# Altium schematic symbol library Schakeling_1.SCHLIB: 28 symbols
Pins are listed as number, name and electrical type; pins without a type are passive.

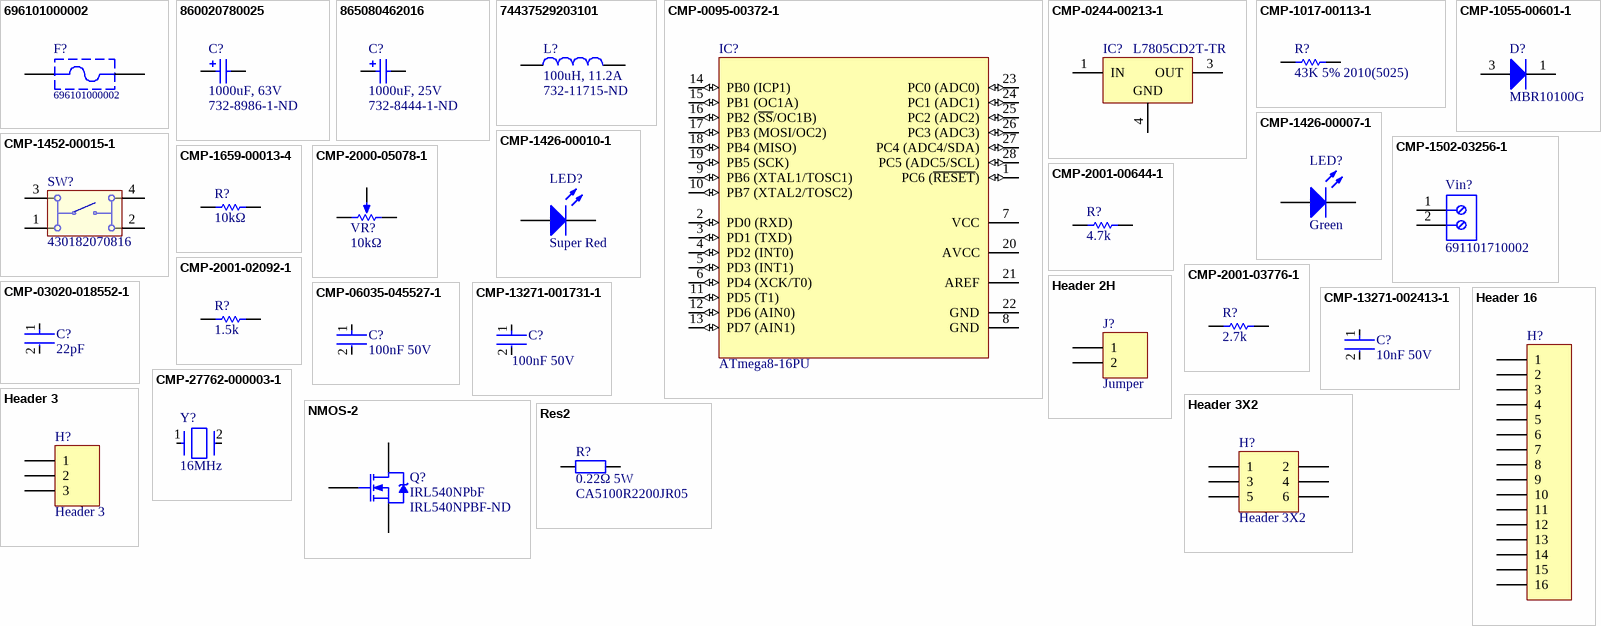
[diagram p0: symbols 696101000002 to Res2]

## 696101000002
designator F?
WR-FSH Fuse Holder Blocks Fuse Holder Blocks Clip Cover for PCB; Fuse Size: 5x20 mm; ComponentLink1Description: Manufacturer; ComponentLink1URL: http://www.we-online.de; ComponentLink2Description: Datasheet; ComponentLink2URL: https://katalog.we-online.de/em/datasheet/696101000002.pdf; Part Number: 696101000002; Published Date: August 2018; Publisher: Wurth Elektronik; Operating Temperature: -30 to 120 degC; Mounting Technology: THT; Packaging: Box
footprint 696101000002
pins: 1, 2

## 860020780025
designator C?, comment 1000uF, 63V  Supplier Part Number 1: 732-8986-1-ND
CAP ALUM 1000UF 20% 63V RADIAL; Manufacturer Part Number: 860020780025; Manufacturer: Wurth Elektronik; Endurance: 2000h; Ripple Current: 1185mA; Technical Reference: ATDK315102M063DSPADB000; Dissipation Factor: 9%; Capacitance Tolerance: +/-20%; Leakage Current: 630uA; Rated Voltage: 63VDC; Polarity: Polar; Life (Hours): 2000Hour; Height: 31.5mm; ComponentLink1URL: http://www.we-online.de; ComponentLink2URL: https://www.we-online.com/catalog/datasheet/860020780025.pdf; ComponentLink2Description: Datasheet; Diameter: 16mm; Mounting Technology: THT; Capacitance: 1000uF; Packaging: Ammo Pack; Published Date: October 2020; ComponentLink1Description: Manufacturer; Operating Temperature: -40 to +105degC; Supplier 1: Digi-Key; RoHS: Yes; Category: Aluminum Electrolytic Capacitors; Stock 1: 70; Pricing 1: 1=2,37000, 50=2,01700, 100=1,75700 (USD); Mount: Through Hole; Case/Package: Radial; Min Operating Temperature: -40°C; Max Operating Temperature: 105°C; Package Quantity: 250; Voltage Rating: 63V; Tolerance: 20%; Voltage Rating (DC): 63V; Lead Pitch: 0.295inch; Height - Seated (Max): 1.299inch; REACH SVHC: Unknown; RoHS Compliant: Yes; ComponentLink3URL: http://www.farnell.com/datasheets/1879699.pdf?src-supplier=Farnell; ComponentLink3Description: http://www.farnell.com/datasheets/1879699.pdf?src-supplier=Farnell; ComponentLink4URL: https://katalog.we-online.de/pbs/datasheet/860020780025.pdf?src-supplier=Digi-Key; ComponentLink4Description: https://katalog.we-online.de/pbs/datasheet/860020780025.pdf?src-supplier=Digi-Key; ComponentLink5URL: http://www.farnell.com/datasheets/1879699.pdf?src-supplier=Element14; ComponentLink5Description: http://www.farnell.com/datasheets/1879699.pdf?src-supplier=Element14; ComponentLink6URL: http://katalog.we-online.de/pbs/datasheet/860020780025.pdf?src-supplier=Digi-Key; ComponentLink6Description: http://katalog.we-online.de/pbs/datasheet/860020780025.pdf?src-supplier=Digi-Key
footprint WCAP-ATG5_D16H31.5
pins: 1 P, 2 N

## 865080462016
designator C?, comment 1000uF, 25V  Supplier Part Number 1: 732-8444-1-ND
WCAP-ASLI Aluminum Electrolytic Capacitor, V-Chip, SMT, D12.5xH14mm, 1000uF, 25V; Manufacturer Part Number: 865080462016; Manufacturer: Wurth Elektronik; Technical Reference: ASEH140102M025DVCTGB000; Ripple Current: 1100mA; Capacitance Tolerance: +/-20%; Leakage Current: 250uA; Endurance: 2000h; Dissipation Factor: 14%; Rated Voltage: 25VDC; Packaging: Tape and Reel; Published Date: October 2020; Operating Temperature: -55 to +105degC; Mounting Technology: SMT; Height: 14mm; Capacitance: 1000uF; ComponentLink1Description: Manufacturer; ComponentLink1URL: http://www.we-online.de; ComponentLink2Description: Datasheet; ComponentLink2URL: https://www.we-online.com/catalog/datasheet/865080462016.pdf; Diameter: 12.5mm; Supplier 1: Digi-Key
footprint WCAP-ASLI_D12.5H14
pins: 1 P, 2 N

## 74437529203101
designator L?, comment 100uH, 11.2A  Supplier Part Number 1: 732-11715-ND
WE-HCF SMT High Current Inductor, size 2920, 100uH, 11.2A, 25.19mOhm; Manufacturer: Wurth Elektronik; Manufacturer Part Number: 74437529203101; Self Resonant Frequency: 4.3MHz; DC Resistance typ.: 22.9mOhm; Saturation Current: 9.4A; ComponentLink1Description: Manufacturer; ComponentLink1URL: http://www.we-online.de; ComponentLink2Description: Datasheet; ComponentLink2URL: https://www.we-online.com/catalog/datasheet/74437529203101.pdf; Mounting Technology: SMT; Operating Temperature: -40 to +125degC; Packaging: Tray and Carton; Published Date: September 2020; DC Resistance max.: 25.19mOhm; Inductance: 100uH; Rated Current: 11.2A; Size: 2920; Supplier 1: Digi-Key
footprint WE-HCF_2920
pins: 1, 2

## CMP-0095-00372-1
designator IC?, comment ATmega8-16PU
8-bit AVR Microcontroller, 4.5-5.5V, 16MHz, 8KB Flash, 512 Bytes EEPROM, 1KB SRAM, 28-pin PDIP, Industrial Grade (-40°C to 85°C); Manufacturer: Microchip / Atmel; ComponentLink3URL: http://www.atmel.com/dyn/resources/prod_documents/2486S.pdf; ComponentLink3Description: ATmega8(L) Summary; PackageDescription: 28-lead (0.300"/7.62mm Wide) Plastic Dual Inline Package (PDIP); ComponentLink2Description: ATmega8(L); ComponentLink1URL: http://www.atmel.com/; PackageVersion: revB, Sep-2001; ComponentLink1Description: Manufacturer URL; ComponentLink2URL: http://www.atmel.com/dyn/resources/prod_documents/doc2486.pdf; PackageReference: 28P3; DatasheetVersion: revZ, Feb-2011; Manufacturer Part Number: ATMEGA8-16PU
footprint 28P3 (DIP, 28-Leads, Row Spacing 7.62mm, Pitch 2.54mm, Body 34.67x7.3mm)
pins: 1 PC6 (~{RESET}) (io), 2 PD0 (RXD) (io), 3 PD1 (TXD) (io), 4 PD2 (INT0) (io), 5 PD3 (INT1) (io), 6 PD4 (XCK/T0) (io), 7 VCC (power), 8 GND (power), 9 PB6 (XTAL1/TOSC1) (io), 10 PB7 (XTAL2/TOSC2) (io), 11 PD5 (T1) (io), 12 PD6 (AIN0) (io), 13 PD7 (AIN1) (io), 14 PB0 (ICP1) (io), 15 PB1 (OC1A) (io), 16 PB2 (~{SS}/OC1B) (io), 17 PB3 (MOSI/OC2) (io), 18 PB4 (MISO) (io), 19 PB5 (SCK) (io), 20 AVCC (power), 21 AREF, 22 GND (power), 23 PC0 (ADC0) (io), 24 PC1 (ADC1) (io), 25 PC2 (ADC2) (io), 26 PC3 (ADC3) (io), 27 PC4 (ADC4/SDA) (io), 28 PC5 (ADC5/SCL) (io)

## CMP-0244-00213-1
designator IC?, comment L7805CD2T-TR
Positive Voltage Regulator, 3-Pin D2PAK, Tape and Reel; Manufacturer: STMicroelectronics; PackageReference: TO-263; ComponentLink2URL: http://www.st.com/internet/com/TECHNICAL_RESOURCES/TECHNICAL_LITERATURE/DATASHEET/CD00000444.pdf; PackageDescription: 3-Pin Transistor Outline Package 2.54 mm Pitch, 15.4 mm Lead Span (D2PAK); DatasheetVersion: 16/11/2011; ComponentLink2Description: Datasheet; ComponentLink1Description: Manufacturer URL; PackageVersion: 2011; ComponentLink1URL: http://www.st.com; Manufacturer Part Number: L7805CD2T-TR
footprint TO-263_M (D2-PAK, 4-Leads, Body 9.2x10.2mm, Pitch 2.54mm, Lead Span 15.4mm, IPC Low Density)
footprint TO-263_N (D2-PAK, 4-Leads, Body 9.2x10.2mm, Pitch 2.54mm, Lead Span 15.4mm, IPC Medium Density)
footprint TO-263_L (D2-PAK, 4-Leads, Body 9.2x10.2mm, Pitch 2.54mm, Lead Span 15.4mm, IPC High Density)
pins: 1 IN (power), 3 OUT (power), 4 GND (power)

## CMP-1017-00113-1
designator R?, comment 43K 5% 2010(5025)
43K 0.75W 5% 2010 (5025 Metric)  SMD; Manufacturer: Vishay Dale; Manufacturer Part Number: CRCW201043K0JNTF; Manufacturer Part Number: CRCW201043K0JNEF; Manufacturer: Panasonic; Manufacturer Part Number: ERJ-12ZYJ433U; Case-EIA: 2010; Value: 43000.00 Ohm; Case-Metric: 5025; Tolerance: 5 %; Technology: SMT; Power: 0.75 W
footprint RESC2010(5025)_M (Chip Resistor, Body 5.0x2.5mm, IPC Low Density)
footprint RESC2010(5025)_L (Chip Resistor, Body 5.0x2.5mm, IPC High Density)
footprint RESC2010(5025)_N (Chip Resistor, Body 5.0x2.5mm, IPC Medium Density)
pins: 1, 2
1 alternate drawing of the same symbol

## CMP-1055-00601-1
designator D?, comment MBR10100G
SWITCHMODE(TM) Power Rectifier, 2-Pin TO-220, Pb-Free, Tube; Manufacturer: On Semiconductor; Configuration: Single; IFSM Max (A): 150; Mounting Technology: Through Hole; ComponentLink1URL: http://www.onsemi.com/; PartNumber: MBR10100G; ComponentLink1Description: Manufacturer URL; ComponentLink3URL: http://www.onsemi.com/pub_link/Collateral/BYW29-D.PDF; PackageDescription: 2-Pin Flange Mount, Vertical Straight Lead, Body 9.97 x 4.44 mm, Pitch 5.08 mm; DatasheetVersion: Rev. 1; PackageVersion: Rev. E; ComponentLink2Description: Datasheet; ComponentLink2URL: http://www.onsemi.cn/pub_link/Collateral/MBR1080-D.PDF; Packing: Tube; RoHS: TRUE; PackageReference: TO-220-2-221B-04_E; ComponentLink3Description: Package Specification; Manufacturer: ON Semiconductor; Manufacturer Part Number: MBR10100G
footprint ONSC-TO-220-2-221B-04_E (FM, 2-Leads, Body 10.3x4.85mm, Pitch 5.08mm)
pins: 1 K, 3 A

## CMP-1426-00007-1
designator LED?, comment Green
SMD mono-color Chip LED, WL-SMCW, Green; PartNumber: 150080GS75000; Manufacturer: Wuerth Elektronik; Manufacturer: Wurth Electronics; PackageReference: 0805_A; Color: Green; ComponentLink2URL: http://katalog.we-online.com/led/datasheet/150080GS75000.pdf; ComponentLink1URL: http://www.we-online.com; ComponentLink1Description: Manufacturer URL; ComponentLink2Description: Datasheet; Manufacturer Part Number: 150080GS75000
footprint 0805_A (Chip LED, 2-Leads, Body 2.0x1.3mm, IPC Medium Density)
pins: 1 K, 2 A

## CMP-1426-00010-1
designator LED?, comment Super Red
SMD mono-color Chip LED, WL-SMCW, Super Red; Manufacturer: Wuerth Elektronik; PartNumber: 150080SS75000; Manufacturer: Wurth Electronics; PackageReference: 0805_A; ComponentLink2URL: http://katalog.we-online.com/led/datasheet/150080SS75000.pdf; ComponentLink1URL: http://www.we-online.com; Color: Super Red; ComponentLink2Description: Datasheet; ComponentLink1Description: Manufacturer URL; Manufacturer Part Number: 150080SS75000
footprint 0805_A (Chip LED, 2-Leads, Body 2.0x1.3mm, IPC Medium Density)
pins: 1 K, 2 A

## CMP-1452-00015-1
designator SW?, comment 430182070816
WS-TASV SMD Tact Switch 6X6 mm; Manufacturer: Wuerth Elektronik; Manufacturer: Wurth Electronics; NoPins: 04; ComponentLink2URL: http://katalog.we-online.de/em/datasheet/4301x2.pdf; ComponentLink1URL: http://www.we-online.com; PartNumber: 430182070816; PackageReference: 430182070816; ComponentLink2Description: Datasheet; ComponentLink1Description: Manufacturer URL; Manufacturer Part Number: 430182070816
footprint 430182070816 (6*6mm vertical type, SMD, height 7.0mm, black actuator, 160gf, T&R)
pins: 1, 2, 3, 4

## CMP-1502-03256-1
designator Vin?, comment 691101710002
Series 101 - 5.00 mm Horizontal Entry Modular with Pressure Clamp WR-TBL, 2 pin; Manufacturer: Wurth Elektronik; Manufacturer: Wurth Electronics; Pin Number: 2; Pitch: 5.00mm; Package Reference: 691101710002; Part Number: 691101710002; Publisher: WurthElektronik; Datasheet URL: http://katalog.we-online.de/em/datasheet/6911017100xx.pdf; Packaging: Box; Operating Temperature: -40to105degC; Manufacturer URL: http://www.we-online.de; Mounting Technology: THT; Manufacturer Part Number: 691101710002
footprint 691101710002 (5,00mm - modular - blue - Horizontal entry with pressure clamp - 12,6mm height - 02p)
pins: 1, 2

## CMP-1659-00013-4
designator R?, comment 10kΩ
Chip Resistor, 10 KOhm, +/- 1%, 0.125 W, -55 to 155 degC, 0805 (2012 Metric), RoHS, Tape and Reel; Manufacturer: Yageo; Manufacturer Part Number: RC0805FR-0710KL; Voltage Rating: 150 V; Mount: Surface Mount; ComponentLink1Description: Manufacturer URL; ComponentLink2URL: http://www.yageo.com/documents/recent/PYu-RC_Group_51_RoHS_L_04.pdf; Pins: 2; Length: 2 mm; Min Operating Temperature: -55 degC; Height: 0.5 mm; Mounting Technology: Surface Mount; RoHSCompliant: true; REACH SVHC: No SVHC; ComponentLink1URL: http://www.yageo.com/; Max Operating Temperature: 155 degC; PackageReference: 0805; DatasheetVersion: Rev. 4, 02/2016; Package Quantity: 5000; Packaging: Tape and Reel; ComponentLink2Description: Datasheet; PackageDescription: 2-Pin Surface Mounted Device, Body 2 x 1.25 mm
footprint RESC2013X60X35NL10T20 (Chip Resistor, 2-Leads, Body 2.1x1.35mm, IPC Medium Density)
footprint RESC2013X60X35LL10T20 (Chip Resistor, 2-Leads, Body 2.1x1.35mm, IPC High Density)
footprint RESC2013X60X35ML10T20 (Chip Resistor, 2-Leads, Body 2.1x1.35mm, IPC Low Density)
pins: 1, 2

## CMP-2000-05078-1
designator VR?, comment 10kΩ
Square Trimming Potentiometer, 10 KOhm, 500 mW, -55 to 125 degC, 3-Pin THD, RoHS, Tube; Manufacturer Part Number: 3299W-1-103LF; Brand: Bourns; Power Rating: 500mW(1/2W); Unit Weight: 0.035000oz; Qualification: Commercial; Element Type: Cermet; Resistance: 10kOhms; Tolerance: 10%; Temperature Coefficient: 100PPM/C; Voltage Rating: 300V; Adjustment: TopCrossed; Product: Multiturn; Datasheet Version: Sep-04; Datasheet URL: https://datasheet.ciiva.com/19482/769696-19482212.pdf; RoHS: True; Tradename: Trimpot; Product Type: SquareTrimmingPotentiometer; Mounting: PanelMount; Packaging: Tube; Package Reference: 3299W; Operating Temperature Range: -55Cto+125C; Length: 10.03mm; Termination Style: Pin; Manufacturer: Bourns; Manufacturer URL: http://www.bourns.com/; Product Category: TrimmerResistors-ThroughHole; Width: 9.53mm; Taper: Linear; Package Description: 3-Pin Surface Mount Device, Body 9.53 x 6.1 mm, Pitch 2.54 mm; Type: Trimmers; Series: 3299
footprint BOUR-3299W-3_V (TH, 3-Leads, Body 9.53x6.4mm, Pitch 2.54mm)
footprint 10k_trimmer
pins: 1 CCW, 2 WIPER, 3 CW

## CMP-2001-00644-1
designator R?, comment 4.7k
Part Number: ERA6AEB472V; Manufacturer: Panasonic; Manufacturer Part Number: ERA-6AEB472V
footprint RESC2013X60X40ML20T25 (Chip Resistor, 2-Leads, Body 2.00x1.25mm, IPC Low Density)
footprint RESC2013X60X40LL20T25 (Chip Resistor, 2-Leads, Body 2.00x1.25mm, IPC High Density)
footprint RESC2013X60X40NL20T25 (Chip Resistor, 2-Leads, Body 2.00x1.25mm, IPC Medium Density)
pins: 1, 2
1 alternate drawing of the same symbol

## CMP-2001-02092-1
designator R?, comment 1.5k
Manufacturer: KOA Speer; Part Number: RK73H2ATTD1501F; Manufacturer Part Number: RK73H2ATTD1501F
footprint RESC2013X60X30LL20T20 (Chip Resistor, 2-Leads, Body 2.00x1.25mm, IPC High Density)
footprint RESC2013X60X30ML20T20 (Chip Resistor, 2-Leads, Body 2.00x1.25mm, IPC Low Density)
footprint RESC2013X60X30NL20T20 (Chip Resistor, 2-Leads, Body 2.00x1.25mm, IPC Medium Density)
pins: 1, 2
1 alternate drawing of the same symbol

## CMP-2001-03776-1
designator R?, comment 2.7k
Part Number: CRCW08052K70JNEA; Manufacturer: Vishay Dale; Manufacturer Part Number: CRCW08052K70JNEA
footprint RESC2013X50X30NL20T20 (Chip Resistor, 2-Leads, Body 2.00x1.25mm, IPC Medium Density)
footprint RESC2013X50X30LL20T20 (Chip Resistor, 2-Leads, Body 2.00x1.25mm, IPC High Density)
footprint RESC2013X50X30ML20T20 (Chip Resistor, 2-Leads, Body 2.00x1.25mm, IPC Low Density)
pins: 1, 2
1 alternate drawing of the same symbol

## CMP-03020-018552-1
designator C?, comment 22pF
CAP CER 22PF 50V C0G/NP0 0805; Manufacturer Part Number: C0805C220J5GAC7210; Manufacturer: KEMET; Material: Ceramic; Temperature Coefficient: 30ppm/°C; Tolerance: 0.05; Temperature Characteristic: C0G; Capacitance: 22 pF; Octopart: https://octopart.com/c0805c220j5gac7210-kemet-3882539; Automotive: No; ComponentLink2Description: Datasheet; Temperature Range High: +125°C; Height: 0.88mm; Device Class L3: Ceramic Capacitors; Lead Free: Yes; Package: C0805C-DN; Digikey Description: CAP CER 22PF 50V C0G/NP0 0805; Ipc Land Pattern Name: CAPC200125X78; Value: 22 pF; Temperature: -55°C to +125°C; Voltage Rating: 50 V; Category: Cap; ComponentLink2URL: https://content.kemet.com/datasheets/KEM_C1003_C0G_SMD.pdf; RoHS: TRUE; Temperature Range Low: -55°C; Device Class L2: Capacitors; Device Class L1: Passive Components
footprint FP-C0805C-DN-MFG
footprint FP-C0805C-DN-IPC_C
footprint FP-C0805C-DN-IPC_B
footprint FP-C0805C-DN-IPC_A
pins: 1, 2

## CMP-06035-045527-1
designator C?, comment 100nF 50V
Chip Multilayer Ceramic Capacitors for Automotive, 0805, 0.10uF, X7R, 15%, 10%, 50V, Grade 1; Manufacturer: Murata; Manufacturer Part Number: GCD21BR71H104KA01L; Case Code (Metric): 2012; Voltage Rating: 50V; Height: 1.25mm; Weight: 0.000335oz; Mount: Surface Mount; Width: 0.049inch; Packaging: Tape and Reel; Min Operating Temperature: -55°C; Depth: 1.25mm; Length: 2mm; Max Operating Temperature: 125°C; Ratings: AEC-Q200; Termination: SMD/SMT; Capacitance: 100nF; Thickness: 0.049inch; Case/Package: 0805; Voltage Rating (DC): 50V; Dielectric: X7R; Case Code (Imperial): 0805; Tolerance: 10%; Package Quantity: 3000
footprint FP-GCD21B-0_15-IPC_C
footprint FP-GCD21B-0_15-MFG
footprint FP-GCD21B-0_15-IPC_A
footprint FP-GCD21B-0_15-IPC_B
pins: 1, 2

## CMP-13271-001731-1
designator C?, comment 100nF 50V
Cap Ceramic 100nF 50V X7R ±10% SMD 1206 +125°C Embossed T/R; Manufacturer: Samsung; Manufacturer Part Number: CL31B104KBCNNNL; Voltage: 50V; Thickness: 0.037inch; Lead Free: Lead Free; Length: 3.2mm; Min Operating Temperature: -55°C; Package Quantity: 15000; Packaging: Tape and Reel; Mount: Surface Mount; Depth: 1.6mm; Case/Package: 1206; Voltage Rating (DC): 50V; Tolerance: 10%; Height: 0.85mm; Capacitance: 100nF; Radiation Hardening: No; Dielectric: X7R; Voltage Rating: 50V; Max Operating Temperature: 125°C; Width: 0.063inch
footprint FP-CL31-IPC_C
footprint FP-CL31-IPC_A
footprint FP-CL31-IPC_B
pins: 1, 2

## CMP-13271-002413-1
designator C?, comment 10nF 50V
CL21 Series 0805 10nF 50V ±10% Tolerance X7R Multilayer Ceramic Chip Capacitor; Manufacturer: Samsung; Manufacturer Part Number: CL21B103KBANFNC; Radiation Hardening: No; Width: 0.049inch; Case/Package: 0805; Voltage Rating: 50V; Package Quantity: 1; Depth: 1.25mm; Height: 0.65mm; Dielectric: X7R; Length: 0.079inch; Min Operating Temperature: -55°C; Contact Plating: Tin; Case Code (Imperial): 0805; Packaging: Tape and Reel; Lead Free: Lead Free; Tolerance: 10%; Max Operating Temperature: 125°C; Thickness: 0.03inch; Mount: Surface Mount; Capacitance: 10nF; Case Code (Metric): 2012
footprint FP-CL21-IPC_C
footprint FP-CL21-IPC_A
footprint FP-CL21-IPC_B
pins: 1, 2

## CMP-27762-000003-1
designator Y?, comment 16MHz
CRYSTAL 16.0000MHZ 18PF SMD; Manufacturer Part Number: ABLS-16.000MHZ-K4T; Manufacturer: Abracon; Stability: 50ppm; Tolerance: 30ppm; Standoff Height: 0mm; Esr: 40Ω; ComponentLink2URL: https://abracon.com/Resonators/abls.pdf; Frequency: 16MHz; Temperature Range High: +125°C; Package: ABLS; Device Class L3: Crystals; Temperature: -40°C to +125°C; Load Capacitance: 18pF; Device Class L2: Crystals / Oscillators; Mouser Description: Crystal 16MHz ±30ppm (Tol) ±50ppm (Stability) 18pF FUND 40Ohm 2-Pin HC-49/US SMD T/R; Category: Crys; ComponentLink2Description: Datasheet; Series: ABLS; Automotive: No; Octopart: https://octopart.com/abls-16.000mhz-k4t-abracon-18618626; RoHS: TRUE; Digikey Description: CRYSTAL 16.0000MHZ 18PF SMD; Temperature Range Low: -40°C; Lead Free: Yes; Height: 4.3mm; Device Class L1: Passive Components
footprint FP-ABLS-MFG
pins: 1, 2

## Header 2H
designator J?, comment Jumper
Header, 2-Pin, Right Angle; LatestRevisionDate: 17-Jul-2002; LatestRevisionNote: Re-released for DXP Platform.; Publisher: Altium Limited
footprint HDR1X2H (Connector; Header; 2 Position; Right Angle)
signal-integrity model Connector
pins: 1, 2

## Header 3
designator H?
Header, 3-Pin; LatestRevisionDate: 17-Jul-2002; LatestRevisionNote: Re-released for DXP Platform.; Publisher: Altium Limited
footprint HDR1X3 (Connector; Header; 3 Position)
signal-integrity model Connector
pins: 1, 2, 3

## Header 3X2
designator H?
Header, 3-Pin, Dual row; LatestRevisionDate: 17-Jul-2002; LatestRevisionNote: Re-released for DXP Platform.; Publisher: Altium Limited
footprint HDR2X3 (Connector; Header; 3x2 Position)
signal-integrity model Connector
pins: 1, 2, 3, 4, 5, 6

## Header 16
designator H?  (value not drawn)
Header, 16-Pin; LatestRevisionDate: 17-Jul-2002; LatestRevisionNote: Re-released for DXP Platform.; Publisher: Altium Limited
footprint HDR1X16 (Connector; Header; 16 Position)
signal-integrity model Connector
pins: 1, 2, 3, 4, 5, 6, 7, 8, 9, 10, 11, 12, 13, 14, 15, 16

## NMOS-2
designator Q?, comment IRL540NPbF  Supplier Part Number 1: IRL540NPBF-ND
Trans MOSFET N-CH 100V 36A 3-Pin(3+Tab) TO-220AB; Manufacturer: International Rectifier; Note: Pin 2 is electrically connected to pin 4.; Gate to Source Voltage (Vgs): 16V; Turn-On Delay Time: 11ns; Turn-Off Delay Time: 39ns; Rise Time: 81ns; Fall Time: 62ns; Input Capacitance: 1.8nF; Max Power Dissipation: 140W; Rds On Max: 44mR; Drain to Source Resistance: 63mR; Element Configuration: Single; Nominal Vgs: 2V; Number of Elements: 1; Recovery Time: 290ns; On-State Resistance: 53mR; Published: 8-Jun-2000; LatestRevisionDate: 17-Jul-2002; LatestRevisionNote: Re-released for DXP Platform.; DatasheetVersion: PD-9.814; PackageVersion: Feb-1997; PackageReference: TO-220AB; Publisher: Altium Limited; PackageDescription: TO, Thru-Hole, Vertical, Heatsink Mounted; 3 In-Line Leads; Pitch 2.54 mm; ComponentLink1Description: Manufacturer Link; ComponentLink1URL: http://www.irf.com/; Supplier 1: Digi-Key; Manufacturer Part Number: IRL540NPBF; RoHS: Yes; Category: MOSFETs; Stock 1: 6708; Pricing 1: 1=1,24000, 10=1,01100, 25=0,99200, 100=0,78610, 500=0,66628, 1000=0,54276, 2500=0,51094, 5000=0,49342 (USD); Mount: Through Hole; Case/Package: TO-220AB; Number of Pins: 3; Min Operating Temperature: -55°C; Max Operating Temperature: 175°C; Continuous Drain Current (ID): 36A; Packaging: Rail/Tube; Drain to Source Voltage (Vdss): 100V; Drain to Source Breakdown Voltage: 100V; Power Dissipation: 140W; Package Quantity: 50; Dual Supply Voltage: 100V; Termination: Through Hole; Voltage Rating (DC): 100V; Current Rating: 36A; Series: HEXFET®; Drain-source On Resistance-Max: 53mR; Length: 10.54mm; Width: 4.69mm; Height: 8.77mm; Lead Pitch: 2.54mm; RoHS Compliant: Yes; REACH SVHC: No SVHC; Lead Free: Lead Free; ComponentLink2URL: https://datasheet.ciiva.com/7835/irl540npbf-7835764.pdf?src-supplier=Element14; ComponentLink2Description: https://datasheet.ciiva.com/7835/irl540npbf-7835764.pdf?src-supplier=Element14; ComponentLink3URL: https://datasheet.ciiva.com/14170/kkirl540n-data-e-14170372.pdf?src-supplier=Distrelec; ComponentLink3Description: https://datasheet.ciiva.com/14170/kkirl540n-data-e-14170372.pdf?src-supplier=Distrelec; ComponentLink4URL: https://datasheet.ciiva.com/29326/162798-da-01-en-irf-540n-29326742.pdf?src-supplier=Conrad; ComponentLink4Description: https://datasheet.ciiva.com/29326/162798-da-01-en-irf-540n-29326742.pdf?src-supplier=Conrad; ComponentLink5URL: https://datasheet.ciiva.com/6368/irl540npbf-6368261.pdf?src-supplier=Digi-Key; ComponentLink5Description: https://datasheet.ciiva.com/6368/irl540npbf-6368261.pdf?src-supplier=Digi-Key; ComponentLink6URL: https://datasheet.ciiva.com/16395/irl540npbf-16395612.pdf?src-supplier=Future+Electronics; ComponentLink6Description: https://datasheet.ciiva.com/16395/irl540npbf-16395612.pdf?src-supplier=Future+Electronics
footprint TO-220AB (TO, Thru-Hole, Vertical, Heatsink Mounted; 3 In-Line Leads; Pitch 2.54 mm)
simulation model IRF1010 (Spice Subcircuit)
pins: 1 G, 2 D, 3 S

## Res2
designator R?, comment 0.22Ω 5W  Supplier Part Number 1: CA5100R2200JR05
Resistor; Published: 8-Jun-2000; LatestRevisionDate: 17-Jul-2002; LatestRevisionNote: Re-released for DXP Platform.; PackageReference: AXIAL-0.4; Publisher: Altium Limited; PackageDescription: Axial Device, Thru-Hole; 2 Leads; 0.4 in Pin Spacing; Value: 0.22Ω; Supplier 1: Arrow Electronics
footprint AXIAL-0.4 (Axial Device, Thru-Hole; 2 Leads; 0.4 in Pin Spacing)
simulation model RESISTOR (Resistor)
signal-integrity model Res
pins: 1, 2